# EAGLE library part HEADER_5X2_SMD_1.27MM (library ck)
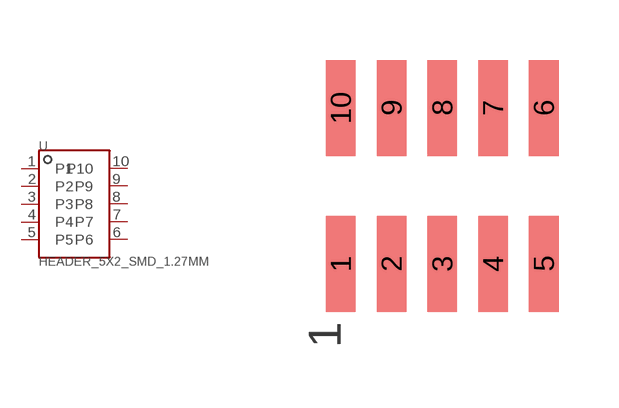
[diagram p15: symbol with the pads of HEADER_5X2_SMD_1.27MM; footprint HEADER_5X2_SMD_1.27MM]

Designator prefix U

## HEADER_5X2_SMD_1.27MM  [HEADER_5X2_SMD_1.27MM]
1  P1
2  P2
3  P3
4  P4
5  P5
6  P6
7  P7
8  P8
9  P9
10  P10

## Footprint HEADER_5X2_SMD_1.27MM (pad centres in mm)
smd 0.74 x 2.4: 1 0,-3.9; 2 1.27,-3.9; 3 2.54,-3.9; 4 3.81,-3.9; 5 5.08,-3.9; 6 5.08,0; 7 3.81,0; 8 2.54,0; 9 1.27,0; 10 0,0